# Altium footprint library IND1206.PcbLib: 1 footprints
Each footprint in its own frame and in the unit in brackets; x right, y up, seen from the top. Pads: shape width x height; smd on the part's side, far side on the other; paste and mask are expansions set on the pad; w line width, h text height; cw(c..) or ccw(c..) is an arc to the next point about the centre after c.
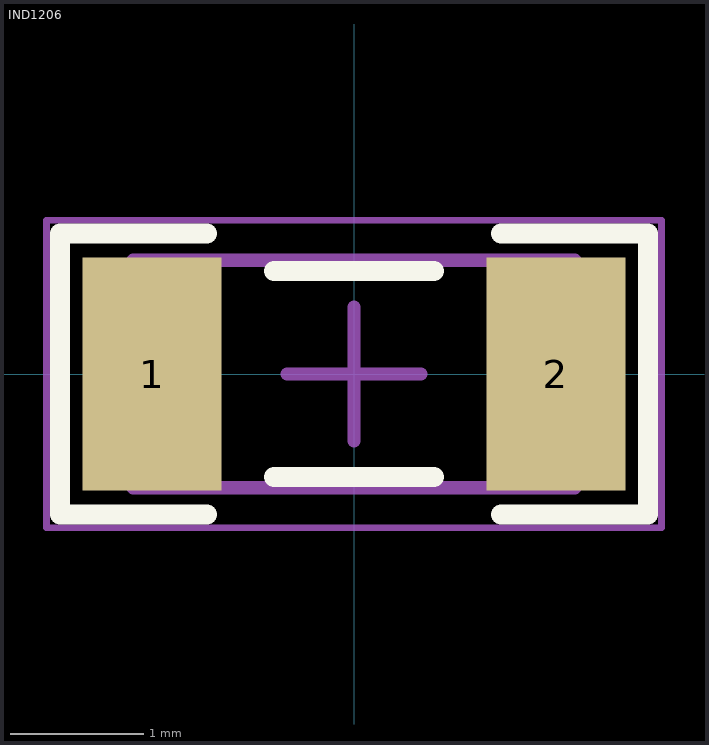
[diagram p0: the footprint, top view; thin cyan lines are the x and y axes]

## IND1206 [mm] "Chip Inductor, 2-Leads, Body 3/20x1/60mm, IPC Medium Density DESIGNER:ABBAS BASEREH"
height 0.94
pads (2):
  rect 1.04x1.74 smd: 1(-1.51,0) 2(1.51,0)
Top Overlay:
  lines w0.15: -1.1,-1.05 -2.2,-1.05 -2.2,1.05 -1.1,1.05 ; -0.6,-0.77 0.6,-0.77 ; -0.6,0.77 0.6,0.77 ; 1.1,-1.05 2.2,-1.05 2.2,1.05 1.1,1.05
Mechanical 13:
  lines w0.1: -1.65,-0.85 1.65,-0.85 1.65,0.85 -1.65,0.85 -1.65,-0.85
Mechanical 15:
  lines w0.05: -2.3,-1.15 2.3,-1.15 2.3,1.15 -2.3,1.15 -2.3,-1.15
  lines w0.1: -0.5,0 0.5,0 ; 0,-0.5 0,0.5
3D body "IND1206.step": height 0.94, standoff 0, extent -1.65,-0.85 1.65,0.85